# EAGLE library part WII-NUNCHUCK (library SparkFun-Connectors)
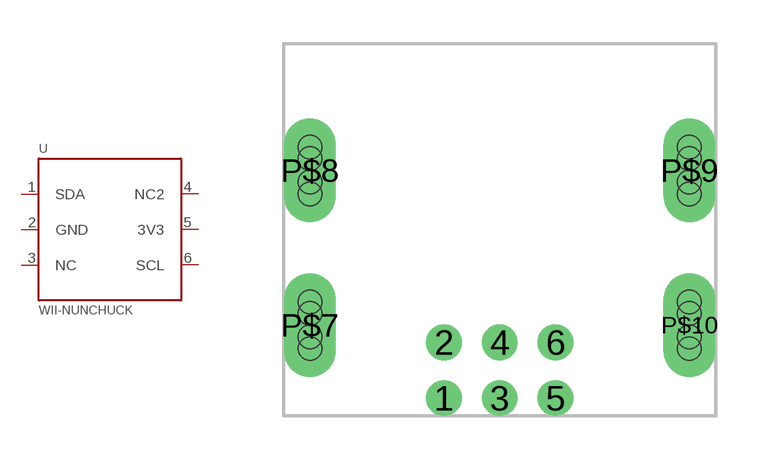
[diagram p80: symbol with the pads of WII_6PIN; footprint WII_6PIN]

Designator prefix -

## WII-NUNCHUCK  [WII_6PIN]
1  SDA
2  GND
3  NC  pwr
4  NC2
5  3V3  nc
6  SCL  pwr

## Footprint WII_6PIN (pad centres in mm)
Footprint for Wii female connector
drill 0.711: 1 -1.905,-5.74; 2 -1.905,-3.835; 3 0,-5.74; 4 0,-3.835; 5 1.905,-5.74; 6 1.905,-3.835
drill 0.8 pad 1.778 long: P$7 -6.477,-3.251; P$8 -6.477,2.032; P$9 6.477,2.032; P$10 6.477,-3.251
hole 0.8 at -6.477,1.632
hole 0.8 at -6.477,1.232
hole 0.8 at -6.477,2.432
hole 0.8 at -6.477,2.832
hole 0.8 at 6.477,1.632
hole 0.8 at 6.477,1.232
hole 0.8 at 6.477,2.432
hole 0.8 at 6.477,2.832
hole 0.8 at 6.477,-3.651
hole 0.8 at 6.477,-4.051
hole 0.8 at 6.477,-2.851
hole 0.8 at 6.477,-2.451
hole 0.8 at -6.477,-3.651
hole 0.8 at -6.477,-4.051
hole 0.8 at -6.477,-2.851
hole 0.8 at -6.477,-2.451